# EAGLE library part SD4-03 (library switch-dil)
DIL/CODE SWITCH
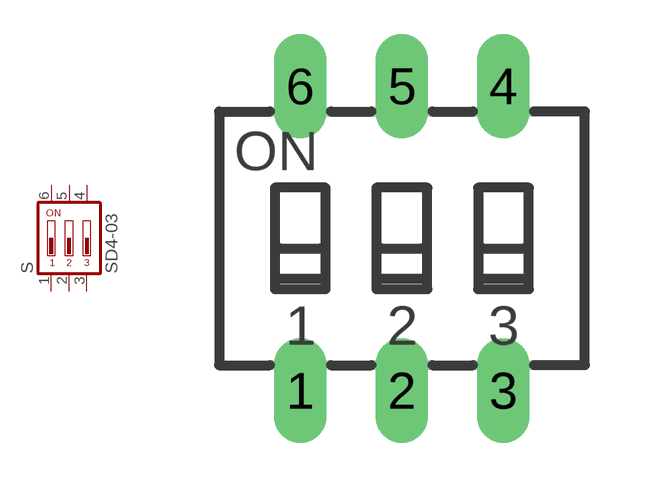
[diagram p36: symbol with the pads of SD4-03; footprint SD4-03]

Designator prefix S

## SD4-03  [SD4-03]
1  1  pas
2  2  pas
3  3  pas
4  4  pas
5  5  pas
6  6  pas

## Footprint SD4-03 (pad centres in mm)
DIL/CODE SWITCH Mors
drill 0.8 long: 1 -2.54,-3.81; 2 0,-3.81; 3 2.54,-3.81; 4 2.54,3.81; 5 0,3.81; 6 -2.54,3.81